# Altium schematic symbol library ALTAIR_PD_MountHoles.SchLib: 1 symbol
Pins are listed as number, name and electrical type; pins without a type are passive.

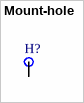
[diagram p0: symbol Mount-hole]

## Mount-hole
designator H?  (value not drawn)
(Plated) Mounting hole
footprint M3 PTH FOR 4.5MM HEX (M3 plated through hole; oversized for 4.5mm hex standoffs)
pins: 1